# Altium schematic symbol library MMF50SFRF10K.SchLib: 2 symbols
Pins are listed as number, name and electrical type; pins without a type are passive.

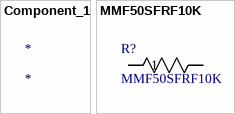
[diagram p0: symbols Component_1 to MMF50SFRF10K]

## Component_1
designator *

## MMF50SFRF10K
designator R?
No Description Available; Mfr_Name: Yageo; Copyright: Copyright (C) 2022 Ultra Librarian. All rights reserved.; Manufacturer_Part_Number: MMF50SFRF10K; Digi-Key_Part_Number_1: MMF50SFRF10K-ND; RefDes: RefDes; Type: DEV
footprint RES_MMF50S_5P9X2P2_YAG-M
pins: 1, 2